# Altium schematic symbol library Inductor.SchLib: 12 symbols
Pins are listed as number, name and electrical type; pins without a type are passive.

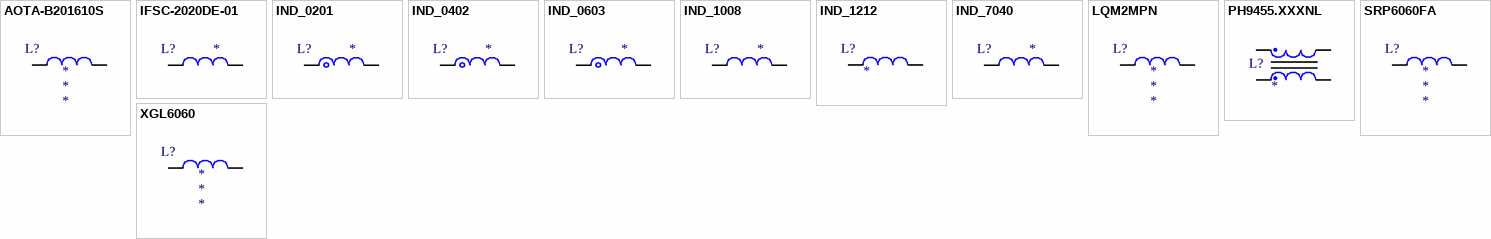
[diagram p0: symbols AOTA-B201610S to XGL6060]

## AOTA-B201610S
designator L?
AOTA-B201610S Abracon 2.0 x 1.6 MM; Manufacturer Part Number 1: *; Manufacturer 1: Abracon; DCR: *; ISAT: *; Value: *
footprint INDC2016X10M (Chip Inductor, 2-Leads, Body 2.00x1.60mm, IPC Low Density)
pins: 1, 2

## IFSC-2020DE-01
designator L?
Semi-Shielded SMD Power Inductors; Manufacturer 1: Vishay Dale; Manufacturer Part Number 1: *; Value: *
footprint IFSC-2020DE-01 (Semi-Shielded SMD Power Inductors)
pins: 1, 2

## IND_0201
designator L?
IND_0201; Suuplier Part Number 1: *; Supplier 1: *; Manufacturer Part Number 1: *; Manufacturer 1: *; Package: 0201; Inductance: *
footprint IND_0201
pins: 1, 2

## IND_0402
designator L?
IND_0402; Suuplier Part Number 1: *; Supplier 1: *; Manufacturer Part Number 1: *; Manufacturer 1: *; Package: 0402; Inductance: *
footprint IND_0402
pins: 1, 2

## IND_0603
designator L?, comment ERP_103-3  (value not drawn)
IND_0603; Suuplier Part Number 1: *; Supplier 1: *; Manufacturer Part Number 1: *; Manufacturer 1: *; Package: 0603; Inductance: *
footprint IND_0603
pins: 1, 2

## IND_1008
designator L?
1008 Inductors (SMD) ROHS; Suuplier Part Number 1: *; Supplier 1: *; Manufacturer Part Number 1: *; Manufacturer 1: *; Package: 1008; Inductance: *
footprint IND_1008
footprint INDC2520X10L (Chip Inductor, 2-Leads, Body 2.50x2.00mm, IPC High Density)
pins: 1, 2

## IND_1212
designator L?
IND_1212; Manufacturer Part Number 1: *; Manufacturer 1: *; Supplier 1: *; Supplier Part Number 1: *; Value: *
footprint IND_1212
pins: 1, 2

## IND_7040
designator L?
IND_7040; Manufacturer 1: Würth Elektronik; Manufacturer Part Number 1: *; Value: *
footprint IND_7040 (Footprint not found)
pins: 1, 2

## LQM2MPN
designator L?
1.2A 138mΩ 2.2uH 40MHz ±20% 0806 Inductors (SMD) ROHS; Manufacturer 1: Murata Electronics; Manufacturer Part Number 1: *; Supplier 1: *; Supplier Part Number 1: *; DCR: *; ISAT: *; Value: *
footprint LQM2MPN (0806 Chip Inductor)
pins: 1, 2

## PH9455.XXXNL
designator L?
Common Mode Choke Through Hole; Manufacturer 1: Pulse Electronics; Manufacturer Part Number 1: *; Value: *
footprint PH9455.205NL (2.2 mH @ 8.39 MHz 2 Line Common Mode Choke Through Hole 2.6 kOhms @ 8.39 MHz 16A DCR 4.5mOhm)
pins: 1, 2, 3, 4

## SRP6060FA
designator L?
SRP6060FA Bourns 6.4 x 6.6 MM; Manufacturer 1: Coilcraft; Manufacturer Part Number 1: *; DCR: *; ISAT: *; Value: *
footprint SRP6060FA (Footprint not found)
pins: 1, 2

## XGL6060
designator L?
XGL6060; Manufacturer 1: Coilcraft; Manufacturer Part Number 1: *; DCR: *; ISAT: *; Value: *
footprint XGL6060
pins: 1, 2